# Altium footprint library Relay.PcbLib: 2 footprints
Each footprint in its own frame and in the unit in brackets; x right, y up, seen from the top. Pads: shape width x height; smd on the part's side, far side on the other; paste and mask are expansions set on the pad; w line width, h text height; cw(c..) or ccw(c..) is an arc to the next point about the centre after c.
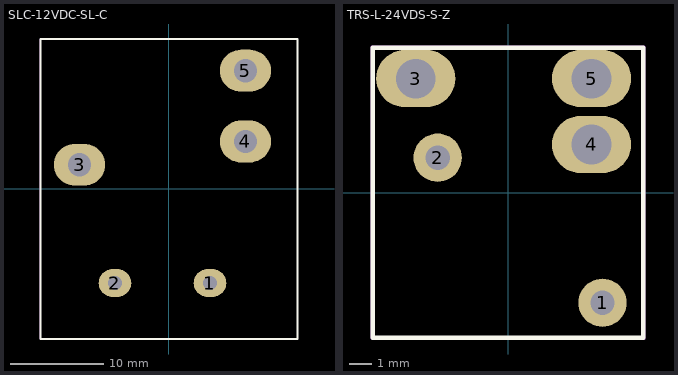
[diagram p0: the footprints below, top view; thin cyan lines are the x and y axes]

## SLC-12VDC-SL-C [mm]
pads (5):
  oval 3.5x3 hole 1.5: 1(4.4,-10.1) 2(-5.8,-10.1)
  oval 5.5x4.5 hole 2.5: 3(-9.6,2.6) 4(8.2,5.1) 5(8.2,12.7)
Top Overlay:
  lines w0.2: -13.8,-16.1 -13.8,16.1 13.8,16.1 13.8,-16.1 -13.8,-16.1
Border:
  lines w0.1: -13.8,-16.1 -13.8,16.1 13.8,16.1 13.8,-16.1 -13.8,-16.1
3D body "SLC-12VDC-SL-C.stp": height 28, standoff -3.2, extent -13.8,-16.1 13.8,16.1

## TRS-L-24VDS-S-Z [mm]
pads (5):
  round 2.2 hole 1.1: 1(4.3,-5) 2(-3.2,1.6)
  oval 3.6x2.6 hole 1.8: 3(-4.2,5.2) 4(3.8,2.2) 5(3.8,5.2)
Top Overlay:
  lines w0.2: -6.15,-6.6 -6.15,6.6 6.15,6.6 6.15,-6.6 -6.15,-6.6
Border:
  lines w0.1: -6.2,-6.625 -6.2,6.65 ; -6.194,6.65 6.2,6.65 6.2,-6.625 ; -6.175,-6.65 6.2,-6.65
3D body "Реле.stp": height 9.8, standoff -3.1, extent -6.15,-6.6 6.15,6.6